# EAGLE library part ATMEGAXU4 (library shack)
Atmel Atmega16U4 or Atmega32U4
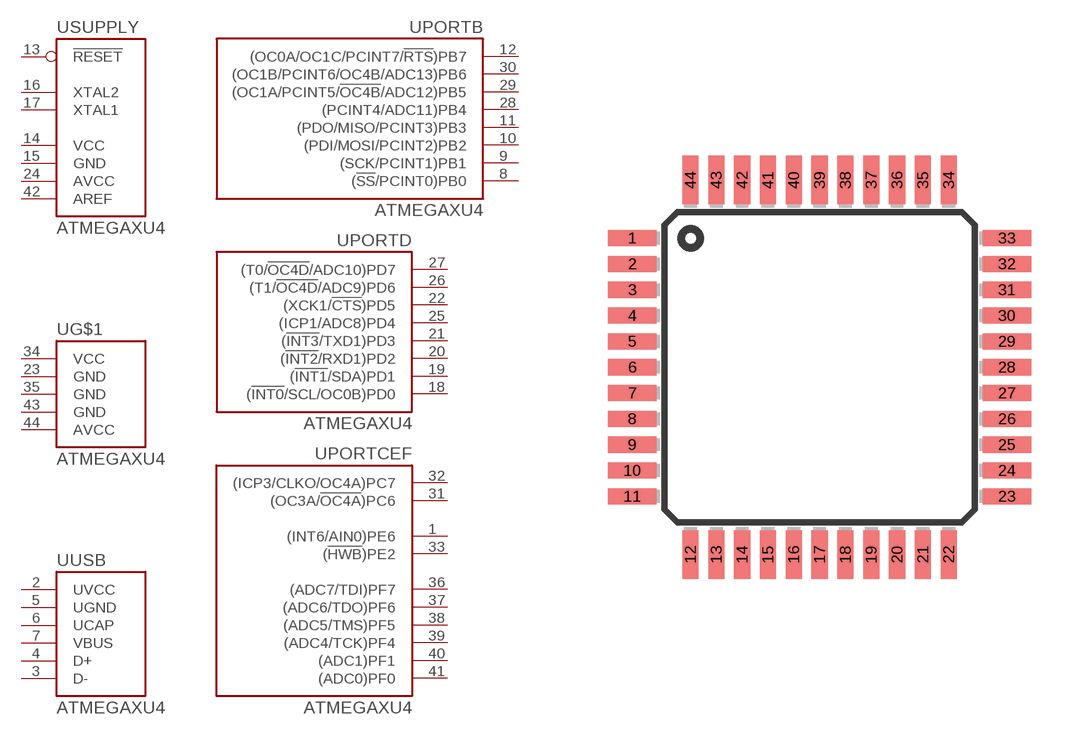
[diagram p5: symbol with the pads of TQFP44; footprint TQFP44]

Designator prefix -; gates SUPPLY=ATMEGAXU4_SUPPLY USB=ATMEGAXU4_USB PORTB=ATMEGAXU4_PORTB PORTD=ATMEGAXU4_PORTD PORTCEF=ATMEGAXU4_PORTCEF G$1=ATMEGAXU4_EXTRASUPPLY

## ATMEGAXU4TQFP44  [TQFP44]
1  PORTCEF:(INT6/AIN0)PE6
2  USB:UVCC  pwr
3  USB:D-
4  USB:D+
5  USB:UGND  pwr
6  USB:UCAP  pwr
7  USB:VBUS  pwr
8  PORTB:(!SS!/PCINT0)PB0
9  PORTB:(SCK/PCINT1)PB1
10  PORTB:(PDI/MOSI/PCINT2)PB2
11  PORTB:(PDO/MISO/PCINT3)PB3
12  PORTB:(OC0A/OC1C/PCINT7/!RTS!)PB7
13  SUPPLY:!RESET  in
14  SUPPLY:VCC  pwr
15  SUPPLY:GND  pwr
16  SUPPLY:XTAL2
17  SUPPLY:XTAL1
18  PORTD:(!INT0!/SCL/OC0B)PD0
19  PORTD:(!INT1!/SDA)PD1
20  PORTD:(!INT2!/RXD1)PD2
21  PORTD:(!INT3!/TXD1)PD3
22  PORTD:(XCK1/!CTS!)PD5
23  G$1:GND  pwr
24  SUPPLY:AVCC  pwr
25  PORTD:(ICP1/ADC8)PD4
26  PORTD:(T1/!OC4D!/ADC9)PD6
27  PORTD:(T0/!OC4D!/ADC10)PD7
28  PORTB:(PCINT4/ADC11)PB4
29  PORTB:(OC1A/PCINT5/!OC4B!/ADC12)PB5
30  PORTB:(OC1B/PCINT6/OC4B/ADC13)PB6
31  PORTCEF:(OC3A/!OC4A!)PC6
32  PORTCEF:(ICP3/CLKO/OC4A)PC7
33  PORTCEF:(!HWB!)PE2
34  G$1:VCC  pwr
35  G$1:GND  pwr
36  PORTCEF:(ADC7/TDI)PF7
37  PORTCEF:(ADC6/TDO)PF6
38  PORTCEF:(ADC5/TMS)PF5
39  PORTCEF:(ADC4/TCK)PF4
40  PORTCEF:(ADC1)PF1
41  PORTCEF:(ADC0)PF0
42  SUPPLY:AREF  pwr
43  G$1:GND  pwr
44  G$1:AVCC  pwr

## Footprint TQFP44 (pad centres in mm)
44-lead Thin Quad Flat Package
smd 1.5 x 0.5: 1 -5.8,4; 2 -5.8,3.2; 3 -5.8,2.4; 4 -5.8,1.6; 5 -5.8,0.8; 6 -5.8,0; 7 -5.8,-0.8; 8 -5.8,-1.6; 9 -5.8,-2.4; 10 -5.8,-3.2; 11 -5.8,-4; 23 5.8,-4; 24 5.8,-3.2; 25 5.8,-2.4; 26 5.8,-1.6; 27 5.8,-0.8; 28 5.8,0; 29 5.8,0.8; 30 5.8,1.6; 31 5.8,2.4; 32 5.8,3.2; 33 5.8,4
smd 0.5 x 1.5: 12 -4,-5.8; 13 -3.2,-5.8; 14 -2.4,-5.8; 15 -1.6,-5.8; 16 -0.8,-5.8; 17 0,-5.8; 18 0.8,-5.8; 19 1.6,-5.8; 20 2.4,-5.8; 21 3.2,-5.8; 22 4,-5.8; 34 4,5.8; 35 3.2,5.8; 36 2.4,5.8; 37 1.6,5.8; 38 0.8,5.8; 39 0,5.8; 40 -0.8,5.8; 41 -1.6,5.8; 42 -2.4,5.8; 43 -3.2,5.8; 44 -4,5.8